# Altium footprint library lorawan_gateway.PcbLib: 36 footprints (part 3 of 3)
Each footprint in its own frame and in the unit in brackets; x right, y up, seen from the top. Pads: shape width x height; smd on the part's side, far side on the other; paste and mask are expansions set on the pad; w line width, h text height; cw(c..) or ccw(c..) is an arc to the next point about the centre after c.
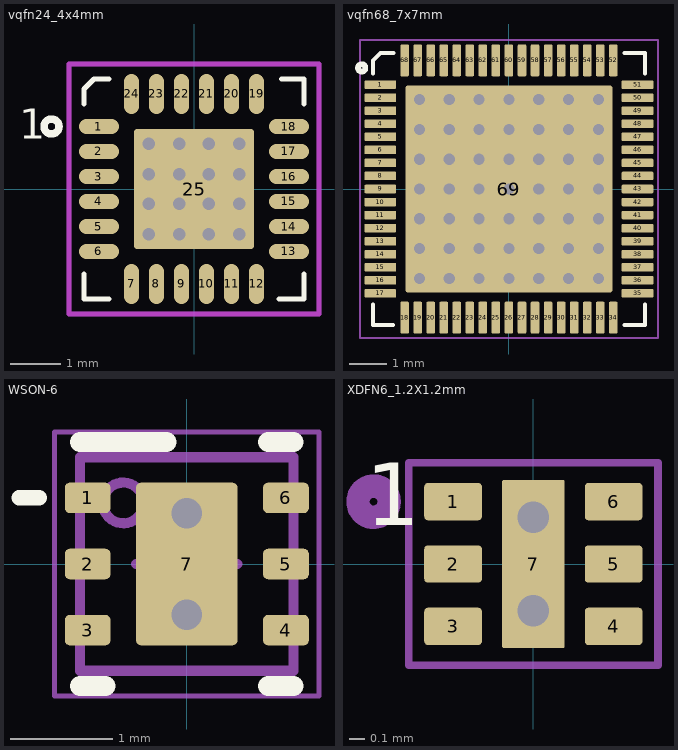
[diagram p2: the footprints below, top view; thin cyan lines are the x and y axes]

## vqfn24_4x4mm [mm] "24 Leads, Body 4.0x4.0mm, Pitch 0.50mm, VQFN24"
height 1
pads (25):
  oval 0.8x0.3 smd mask+0.05: 1(-1.9,1.25) 2(-1.9,0.75) 3(-1.9,0.25) 4(-1.9,-0.25) 5(-1.9,-0.75) 6(-1.9,-1.25) 13(1.9,-1.25) 14(1.9,-0.75) 15(1.9,-0.25) 16(1.9,0.25) 17(1.9,0.75) 18(1.9,1.25)
  oval 0.3x0.8 smd mask+0.05: 7(-1.25,-1.9) 8(-0.75,-1.9) 9(-0.25,-1.9) 10(0.25,-1.9) 11(0.75,-1.9) 12(1.25,-1.9) 19(1.25,1.9) 20(0.75,1.9) 21(0.25,1.9) 22(-0.25,1.9) 23(-0.75,1.9) 24(-1.25,1.9)
  rrect5% 2.4x2.4 smd paste-2.5 mask+0.05: 25(0,0)
via 0.3,-0.9 diameter 0.5 hole 0.25
via 0.3,0.3 diameter 0.5 hole 0.25
via -0.3,0.9 diameter 0.5 hole 0.25
via 0.3,0.9 diameter 0.5 hole 0.25
via -0.9,0.3 diameter 0.5 hole 0.25
via 0.9,0.9 diameter 0.5 hole 0.25
via 0.3,-0.3 diameter 0.5 hole 0.25
via -0.9,-0.3 diameter 0.5 hole 0.25
via -0.3,0.3 diameter 0.5 hole 0.25
via -0.3,-0.9 diameter 0.5 hole 0.25
via -0.3,-0.3 diameter 0.5 hole 0.25
via 0.9,0.3 diameter 0.5 hole 0.25
via 0.9,-0.9 diameter 0.5 hole 0.25
via -0.9,0.9 diameter 0.5 hole 0.25
via 0.9,-0.3 diameter 0.5 hole 0.25
via -0.9,-0.9 diameter 0.5 hole 0.25
Top Overlay:
  circle w0.15: c-2.85,1.25 r0.15
  lines w0.1: -2.2,-1.7 -2.2,-2.2 -1.7,-2.2 ; -2.2,1.7 -2.2,2 -2,2.2 -1.7,2.2 ; 1.7,-2.2 2.2,-2.2 2.2,-1.7 ; 1.75,2.2 2.2,2.2 2.2,1.7
  text "1" at -3.5,1 h0.6
Top Paste:
  region: 0.05,-1.15 1.15,-1.15 1.15,-0.05 0.05,-0.05
  region: 0.05,0.05 1.15,0.05 1.15,1.15 0.05,1.15
  region: -1.15,0.05 -0.05,0.05 -0.05,1.15 -1.15,1.15
  region: -1.15,-1.15 -0.05,-1.15 -0.05,-0.05 -1.15,-0.05
Mechanical 15 keep-out:
  lines w0.1: -2.5,-2.5 -2.5,2.5 2.5,2.5 2.5,-2.5 -2.5,-2.5
3D body: height 1, standoff 0.05, extent -2,-2 2,2

## vqfn68_7x7mm [mm] "VQFN68 Leads, Body 7.0x7.0mm, Pitch 0.35mm"
height 0.9
pads (69):
  rrect25% 0.85x0.23 smd paste+0 mask+0.025: 1(-3.45,2.8) 2(-3.45,2.45) 3(-3.45,2.1) 4(-3.45,1.75) 5(-3.45,1.4) 6(-3.45,1.05) 7(-3.45,0.7) 8(-3.45,0.35) 9(-3.45,0) 10(-3.45,-0.35) 11(-3.45,-0.7) 12(-3.45,-1.05) 13(-3.45,-1.4) 14(-3.45,-1.75) 15(-3.45,-2.1) 16(-3.45,-2.45) 17(-3.45,-2.8) 35(3.45,-2.8) 36(3.45,-2.45) 37(3.45,-2.1) 38(3.45,-1.75) 39(3.45,-1.4) 40(3.45,-1.05) 41(3.45,-0.7) 42(3.45,-0.35) 43(3.45,0) 44(3.45,0.35) 45(3.45,0.7) 46(3.45,1.05) 47(3.45,1.4) 48(3.45,1.75) 49(3.45,2.1) 50(3.45,2.45) 51(3.45,2.8)
  rrect25% 0.23x0.85 smd paste+0 mask+0.025: 18(-2.8,-3.45) 19(-2.45,-3.45) 20(-2.1,-3.45) 21(-1.75,-3.45) 22(-1.4,-3.45) 23(-1.05,-3.45) 24(-0.7,-3.45) 25(-0.35,-3.45) 26(0,-3.45) 27(0.35,-3.45) 28(0.7,-3.45) 29(1.05,-3.45) 30(1.4,-3.45) 31(1.75,-3.45) 32(2.1,-3.45) 33(2.45,-3.45) 34(2.8,-3.45) 52(2.8,3.45) 53(2.45,3.45) 54(2.1,3.45) 55(1.75,3.45) 56(1.4,3.45) 57(1.05,3.45) 58(0.7,3.45) 59(0.35,3.45) 60(0,3.45) 61(-0.35,3.45) 62(-0.7,3.45) 63(-1.05,3.45) 64(-1.4,3.45) 65(-1.75,3.45) 66(-2.1,3.45) 67(-2.45,3.45) 68(-2.8,3.45)
  rrect2% 5.55x5.55 smd paste-6.6 mask+0.025: 69(0,0)
via 0,0 diameter 0.6 hole 0.3
via -0.8,0 diameter 0.6 hole 0.3
via -1.6,0 diameter 0.6 hole 0.3
via -2.4,0 diameter 0.6 hole 0.3
via 0.8,0 diameter 0.6 hole 0.3
via 1.6,0 diameter 0.6 hole 0.3
via 2.4,0 diameter 0.6 hole 0.3
via 2.4,-0.8 diameter 0.6 hole 0.3
via 1.6,-0.8 diameter 0.6 hole 0.3
via 0.8,-0.8 diameter 0.6 hole 0.3
via -2.4,-0.8 diameter 0.6 hole 0.3
via -1.6,-0.8 diameter 0.6 hole 0.3
via -0.8,-0.8 diameter 0.6 hole 0.3
via 0,-0.8 diameter 0.6 hole 0.3
via 2.4,-1.6 diameter 0.6 hole 0.3
via 1.6,-1.6 diameter 0.6 hole 0.3
via 0.8,-1.6 diameter 0.6 hole 0.3
via -2.4,-1.6 diameter 0.6 hole 0.3
via -1.6,-1.6 diameter 0.6 hole 0.3
via -0.8,-1.6 diameter 0.6 hole 0.3
via 0,-1.6 diameter 0.6 hole 0.3
via 2.4,-2.4 diameter 0.6 hole 0.3
via 1.6,-2.4 diameter 0.6 hole 0.3
via 0.8,-2.4 diameter 0.6 hole 0.3
via -2.4,-2.4 diameter 0.6 hole 0.3
via -1.6,-2.4 diameter 0.6 hole 0.3
via -0.8,-2.4 diameter 0.6 hole 0.3
via 0,-2.4 diameter 0.6 hole 0.3
via 2.4,0.8 diameter 0.6 hole 0.3
via 1.6,0.8 diameter 0.6 hole 0.3
via 0.8,0.8 diameter 0.6 hole 0.3
via -2.4,0.8 diameter 0.6 hole 0.3
via -1.6,0.8 diameter 0.6 hole 0.3
via -0.8,0.8 diameter 0.6 hole 0.3
via 0,0.8 diameter 0.6 hole 0.3
via 2.4,1.6 diameter 0.6 hole 0.3
via 1.6,1.6 diameter 0.6 hole 0.3
via 0.8,1.6 diameter 0.6 hole 0.3
via -2.4,1.6 diameter 0.6 hole 0.3
via -1.6,1.6 diameter 0.6 hole 0.3
via -0.8,1.6 diameter 0.6 hole 0.3
via 0,1.6 diameter 0.6 hole 0.3
via 2.4,2.4 diameter 0.6 hole 0.3
via 1.6,2.4 diameter 0.6 hole 0.3
via 0.8,2.4 diameter 0.6 hole 0.3
via -2.4,2.4 diameter 0.6 hole 0.3
via -1.6,2.4 diameter 0.6 hole 0.3
via -0.8,2.4 diameter 0.6 hole 0.3
via 0,2.4 diameter 0.6 hole 0.3
Top Overlay:
  circle w0.15: c-3.95,3.25 r0.1
  lines w0.1: -3.65,-3.1 -3.65,-3.65 -3.11,-3.65 ; -3.65,3.1 -3.65,3.45 -3.45,3.65 -3.1,3.65 ; 3.1,-3.65 3.65,-3.65 3.65,-3.1 ; 3.1,3.65 3.65,3.65 3.65,3.1
Top Paste:
  region: -2.5,-1.4 -2.5,-2.5 -1.4,-2.5 -1.4,-1.4
  region: -2.5,-0.1 -2.5,-1.2 -1.4,-1.2 -1.4,-0.1
  region: -2.5,1.2 -2.5,0.1 -1.4,0.1 -1.4,1.2
  region: -2.5,2.5 -2.5,1.4 -1.4,1.4 -1.4,2.5
  region: 1.4,2.5 1.4,1.4 2.5,1.4 2.5,2.5
  region: 1.4,1.2 1.4,0.1 2.5,0.1 2.5,1.2
  region: 1.4,-0.1 1.4,-1.2 2.5,-1.2 2.5,-0.1
  region: 1.4,-1.4 1.4,-2.5 2.5,-2.5 2.5,-1.4
  region: 0.1,2.5 0.1,1.4 1.2,1.4 1.2,2.5
  region: 0.1,1.2 0.1,0.1 1.2,0.1 1.2,1.2
  region: 0.1,-0.1 0.1,-1.2 1.2,-1.2 1.2,-0.1
  region: 0.1,-1.4 0.1,-2.5 1.2,-2.5 1.2,-1.4
  region: -1.2,2.5 -1.2,1.4 -0.1,1.4 -0.1,2.5
  region: -1.2,1.2 -1.2,0.1 -0.1,0.1 -0.1,1.2
  region: -1.2,-0.1 -1.2,-1.2 -0.1,-1.2 -0.1,-0.1
  region: -1.2,-1.4 -1.2,-2.5 -0.1,-2.5 -0.1,-1.4
Top Solder:
  region: 2.94,3 2.94,3.9 -2.94,3.9 -2.94,3
  region: 2.94,-3.9 2.94,-3 -2.94,-3 -2.94,-3.9
  region: 3,-2.94 3.9,-2.94 3.9,2.94 3,2.94
  region: -3.9,-2.94 -3,-2.94 -3,2.94 -3.9,2.94
Mechanical 15:
  lines w0.05: -4,-4 4,-4 4,4 -4,4 -4,-4
3D body: height 0.9, standoff 0.05, extent -3.5,-3.5 3.5,3.5

## WSON-6 [mm] "WSON, 6-Leads, Body 2x2mm, Pitch 0.65mm, Thermal Pad 1.6x1mm, TI Recommended"
height 0.8
pads (7):
  rrect33% 0.45x0.3 smd mask+0.05: 1(-0.975,0.65) 2(-0.975,0) 3(-0.975,-0.65) 4(0.975,-0.65) 5(0.975,0) 6(0.975,0.65)
  rrect10% 1x1.6 smd paste-0.05 mask+0.05: 7(0,0)
via 0,0.5 diameter 0.6 hole 0.3
via 0,-0.5 diameter 0.6 hole 0.3
Top Overlay:
  lines w0.152: -1.65,0.65 -1.45,0.65
  lines w0.2: -1.05,-1.2 -0.8,-1.2 ; -1.05,1.2 -0.2,1.2 ; 0.8,-1.2 1.05,-1.2 ; 0.8,1.2 1.05,1.2
Mechanical 13:
  circle w0.1: c-0.625,0.6 r0.2
  lines w0.1: -1.05,-1.05 1.05,-1.05 1.05,1.05 -1.05,1.05 -1.05,-1.05
Mechanical 15:
  lines w0.05: -1.3,-1.3 1.3,-1.3 1.3,1.3 -1.3,1.3 -1.3,-1.3
  lines w0.1: -0.5,0 0.5,0 ; 0,-0.5 0,0.5
3D body: height 0.8, standoff 0, extent -1.05,-1.05 1.05,1.05
3D body: height 0.81, standoff 0.5, extent -0.824,0.401 -0.426,0.799

## XDFN6_1.2X1.2mm [mm] "6 Leads, Body 1.2x1.2mm, pitch 0.40mm, XDFN6"
height 0.5
pads (7):
  rrect20% 0.37x0.24 smd paste+0 mask+0.05: 1(-0.515,0.4) 2(-0.515,0) 3(-0.515,-0.4) 4(0.515,-0.4) 5(0.515,0) 6(0.515,0.4)
  rrect5% 0.4x1.08 smd paste-0.025 mask+0.05: 7(0,0)
via 0,-0.3 diameter 0.4 hole 0.2
via 0,0.3 diameter 0.4 hole 0.2
Top Overlay:
  text "1" at -1.075,0.25 h0.4
Mechanical 15:
  circle w0.15: c-1.025,0.4 r0.1
  lines w0.05: -0.8,-0.65 -0.8,0.65 0.8,0.65 0.8,-0.65 -0.8,-0.65
3D body: height 0.45, standoff 0, extent -0.6,-0.6 0.6,0.6